# Altium schematic symbol library cd143a_sr05.SchLib: 1 symbol
Pins are listed as number, name and electrical type; pins without a type are passive.

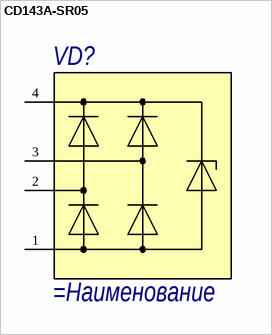
[diagram p0: symbol CD143A-SR05]

## CD143A-SR05
designator VD?
=Описание
pins: 1, 2, 3, 4